# EAGLE library part B_SERIES_PLUG (library bschulz)
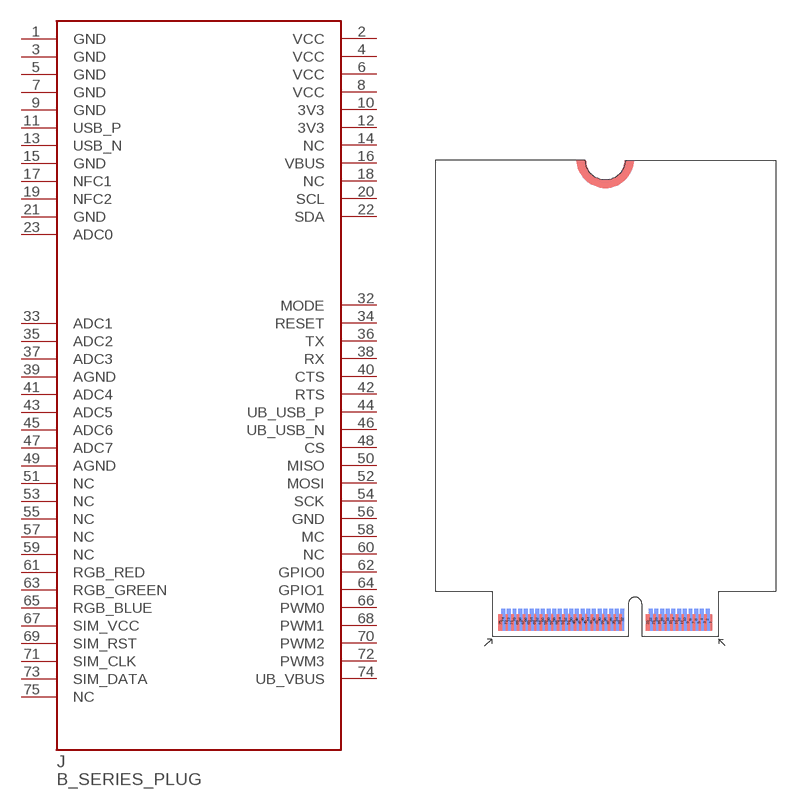
[diagram p172: symbol with the pads of M.2-CARD-E-22; footprint M.2-CARD-E-22]

Designator prefix J

## B_SERIES_PLUG  [M.2-CARD-E-22]
1  GND  pwr
2  VCC  pwr
3  GND  pwr
4  VCC  pwr
5  GND  pwr
6  VCC  pwr
7  GND  pwr
8  VCC  pwr
9  GND  pwr
10  3V3  pwr
11  USB_P
12  3V3  pwr
13  USB_N
14  NC
15  GND  pwr
16  VBUS  pwr
17  NFC1
18  NC
19  NFC2
20  SCL
21  GND  pwr
22  SDA
23  ADC0
32  MODE
33  ADC1
34  RESET
35  ADC2
36  TX
37  ADC3
38  RX
39  AGND  pwr
40  CTS
41  ADC4
42  RTS
43  ADC5
44  UB_USB_P
45  ADC6
46  UB_USB_N
47  ADC7
48  CS
49  AGND  pwr
50  MISO
51  NC
52  MOSI
53  NC
54  SCK
55  NC
56  GND  pwr
57  NC
58  MC
59  NC
60  NC
61  RGB_RED
62  GPIO0
63  RGB_GREEN
64  GPIO1
65  RGB_BLUE
66  PWM0
67  SIM_VCC  pwr
68  PWM1
69  SIM_RST
70  PWM2
71  SIM_CLK
72  PWM3
73  SIM_DATA
74  UB_VBUS  pwr
75  NC

## Footprint M.2-CARD-E-22 (pad centres in mm)
smd 0.35 x 1.45: 1 9.25,1.275; 3 8.75,1.275; 5 8.25,1.275; 7 7.75,1.275; 9 7.25,1.275; 11 6.75,1.275; 13 6.25,1.275; 15 5.75,1.275; 17 5.25,1.275; 19 4.75,1.275; 21 4.25,1.275; 23 3.75,1.275; 33 1.25,1.275; 35 0.75,1.275; 37 0.25,1.275; 39 -0.25,1.275; 41 -0.75,1.275; 43 -1.25,1.275; 45 -1.75,1.275; 47 -2.25,1.275; 49 -2.75,1.275; 51 -3.25,1.275; 53 -3.75,1.275; 55 -4.25,1.275; 57 -4.75,1.275; 59 -5.25,1.275; 61 -5.75,1.275; 63 -6.25,1.275; 65 -6.75,1.275; 67 -7.25,1.275; 69 -7.75,1.275; 71 -8.25,1.275; 73 -8.75,1.275; 75 -9.25,1.275
smd 0.35 x 1.95 bottom: 2 9,1.525; 4 8.5,1.525; 6 8,1.525; 8 7.5,1.525; 10 7,1.525; 12 6.5,1.525; 14 6,1.525; 16 5.5,1.525; 18 5,1.525; 20 4.5,1.525; 22 4,1.525; 32 1.5,1.525; 34 1,1.525; 36 0.5,1.525; 38 0,1.525; 40 -0.5,1.525; 42 -1,1.525; 44 -1.5,1.525; 46 -2,1.525; 48 -2.5,1.525; 50 -3,1.525; 52 -3.5,1.525; 54 -4,1.525; 56 -4.5,1.525; 58 -5,1.525; 60 -5.5,1.525; 62 -6,1.525; 64 -6.5,1.525; 66 -7,1.525; 68 -7.5,1.525; 70 -8,1.525; 72 -8.5,1.525; 74 -9,1.525